# Altium schematic symbol library DI_ZENER.SchLib: 1 symbol
Pins are listed as number, name and electrical type; pins without a type are passive.

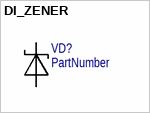
[diagram p0: symbol DI_ZENER]

## DI_ZENER
designator VD?  (value not drawn)
PartNumber: PartNumber
pins: A, C